# Altium schematic symbol library ANALOG_OUT.SchLib: 1 symbol
Pins are listed as number, name and electrical type; pins without a type are passive.

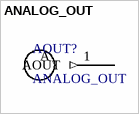
[diagram p0: symbol ANALOG_OUT]

## ANALOG_OUT
designator AOUT?
Analog output symbol
pins: 1 AOUT (out)
text: A